# EAGLE library part MXR9500G/M (library memsic)
Low Cost ±1.5 g Tri Axis Accelerometer with Ratiometric Outputs
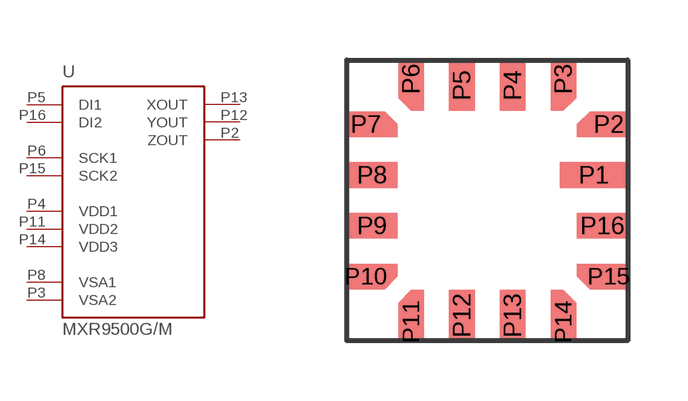
[diagram p0: symbol with the pads of LCC16; footprint LCC16]

Designator prefix -

## MXR9500G/M  [LCC16]
P2  ZOUT  out
P3  VSA2  in
P4  VDD1  pwr
P5  DI1  in
P6  SCK1  in
P8  VSA1  in
P11  VDD2  pwr
P12  YOUT  out
P13  XOUT  out
P14  VDD3  pwr
P15  SCK2  in
P16  DI2  in

## Footprint LCC16 (pad centres in mm)
Leadless Chip Carrier
smd 1.7 x 0.64: P1 2.665,0.635
smd 0.95 x 0.64: P2 3.04,1.905; P7 -3.04,1.905; P10 -3.04,-1.905; P15 3.04,-1.905
smd 0.64 x 0.95: P3 1.905,3.04; P6 -1.905,3.04; P11 -1.905,-3.04; P14 1.905,-3.04
smd 0.64 x 1.27: P4 0.635,2.88; P5 -0.635,2.88; P12 -0.635,-2.88; P13 0.635,-2.88
smd 1.27 x 0.64: P8 -2.88,0.635; P9 -2.88,-0.635; P16 2.88,-0.635